# Altium footprint library HC49S-SMD.PcbLib: 1 footprints
Each footprint in its own frame and in the unit in brackets; x right, y up, seen from the top. Pads: shape width x height; smd on the part's side, far side on the other; paste and mask are expansions set on the pad; w line width, h text height; cw(c..) or ccw(c..) is an arc to the next point about the centre after c.
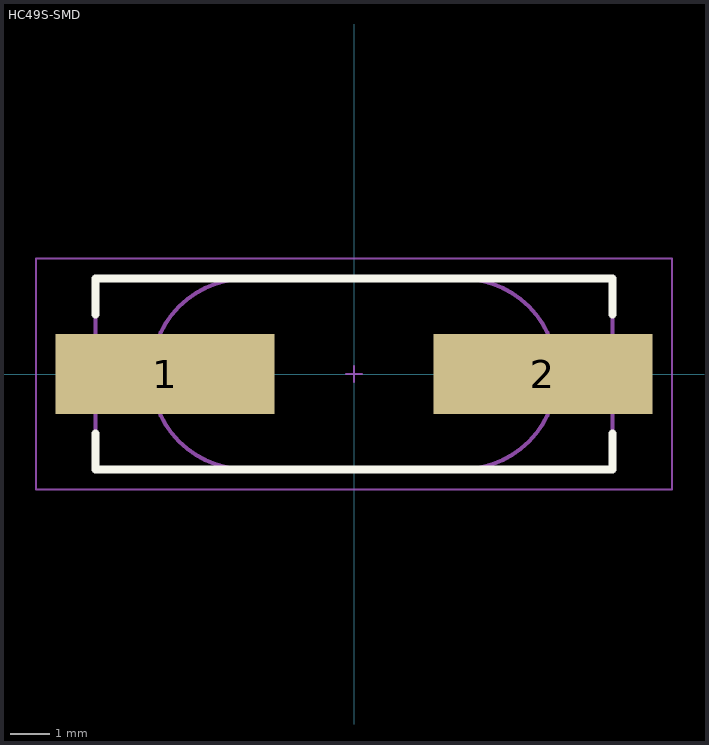
[diagram p0: the footprint, top view; thin cyan lines are the x and y axes]

## HC49S-SMD [mm]
height 4.3
pads (2):
  rect 5.5x2 smd: 1(-4.75,0) 2(4.75,0)
TopOverlay:
  lines w0.2: -6.5,-1.5 -6.5,-2.4 6.5,-2.4 6.5,-1.5 ; -6.5,1.5 -6.5,2.4 6.5,2.4 6.5,1.5
Mechanical13:
  lines w0.1: -6.5,-2.4 -6.5,2.4 6.5,2.4 6.5,-2.4 -6.5,-2.4 ; -2.7,-2.4 cw(c-2.7,0) -2.7,2.4 2.7,2.4 cw(c2.7,0) 2.7,-2.4 -2.7,-2.4
Mechanical15:
  lines w0.05: -0.2,0 0.2,0 ; 0,-0.2 0,0.2 ; -8,-2.9 8,-2.9 8,2.9 -8,2.9 -8,-2.9
3D body: height 4, standoff 0, extent 0,-2.405 5.106,2.405
3D body: height 4, standoff 0, extent -5.106,-2.405 0,2.405
3D body: height 1, standoff 0, extent -6.499,-2.405 -2.77,2.405
3D body: height 1, standoff 0, extent 2.77,-2.405 6.499,2.405